# Altium footprint library TI Amplifiers and Linear Special Function Amplifier.PcbLib: 176 footprints (part 3 of 12)
Each footprint in its own frame and in the unit in brackets; x right, y up, seen from the top. Pads: shape width x height; smd on the part's side, far side on the other; paste and mask are expansions set on the pad; w line width, h text height; cw(c..) or ccw(c..) is an arc to the next point about the centre after c.
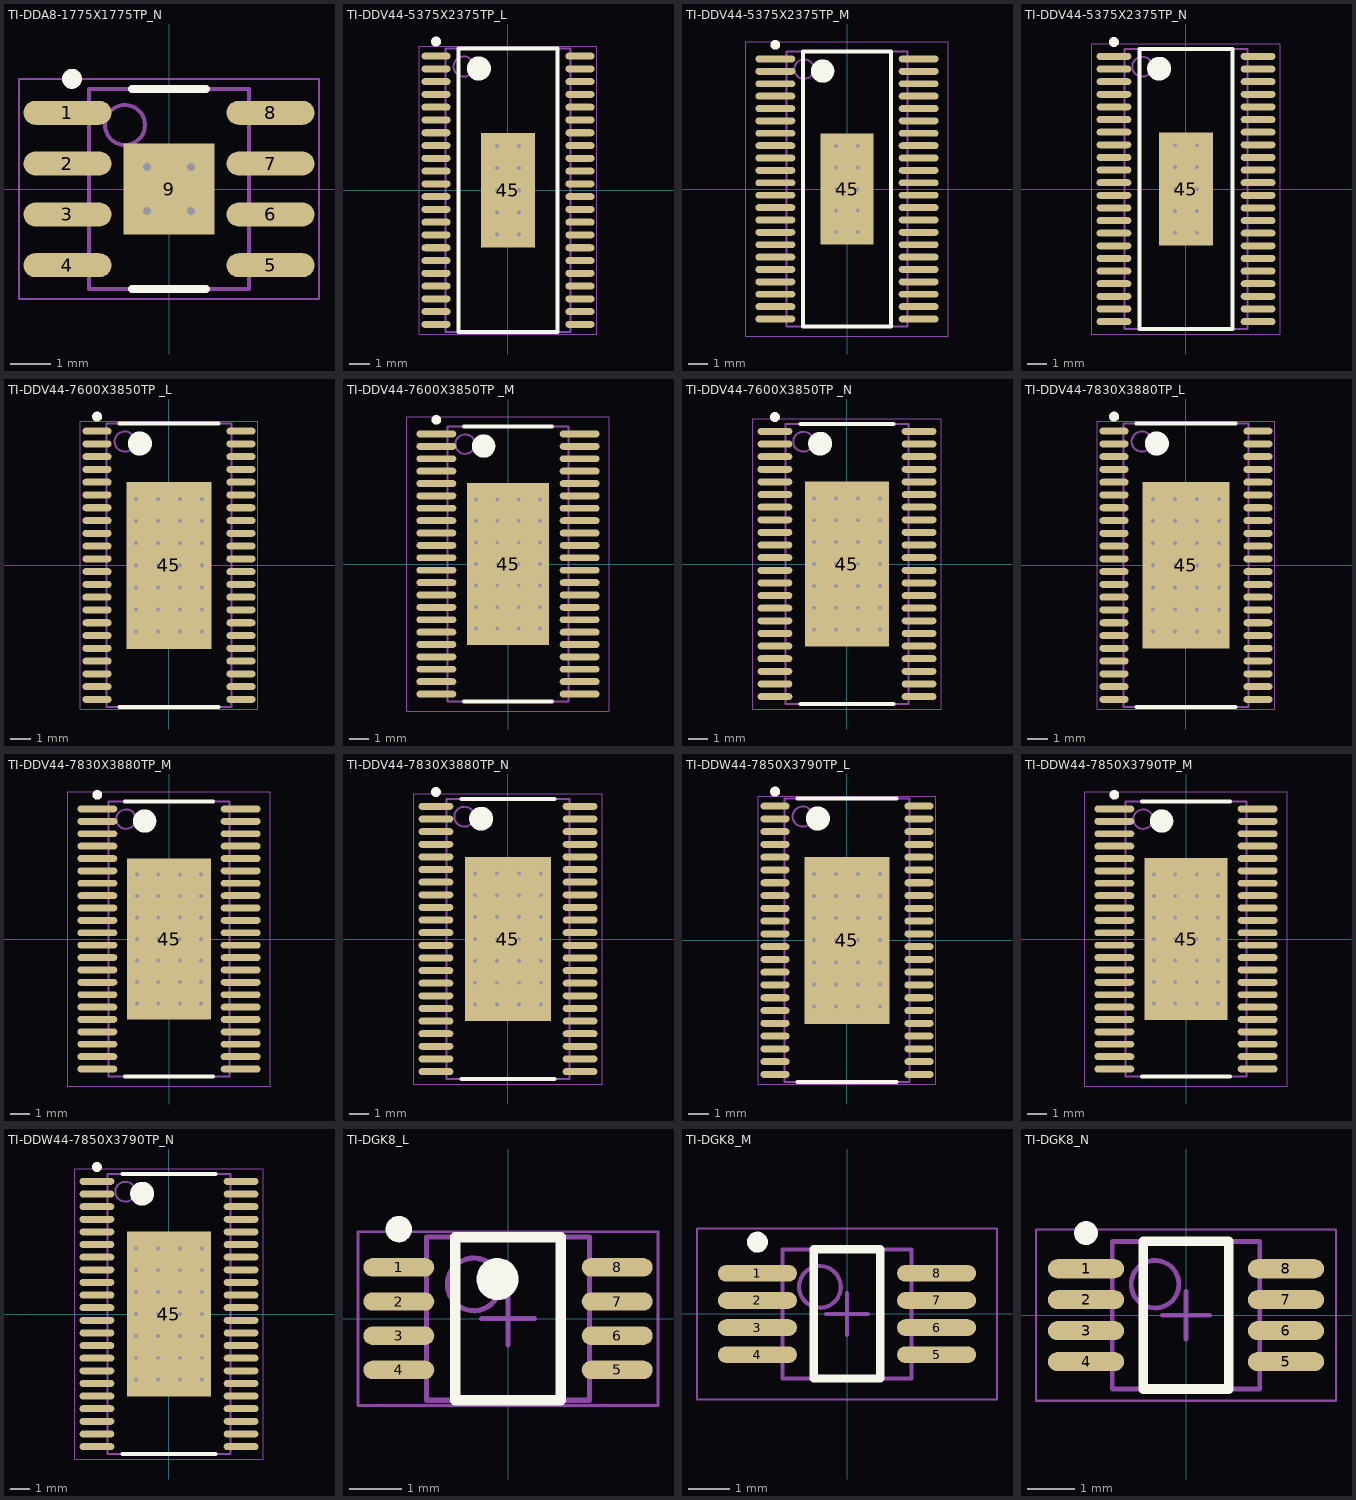
[diagram p2: the footprints below, top view; thin cyan lines are the x and y axes]

## TI-DDA8-1775X1775TP_N [mm] "SOP, 8-Leads, Body 4.9x3.9mm, Pitch 1.27mm, Thermal Pad 1.775x1.775mm, IPC Medium Density"
height 1.7
pads (9):
  oval 2.2x0.6 smd: 1(-2.54,1.905) 2(-2.54,0.635) 3(-2.54,-0.635) 4(-2.54,-1.905) 5(2.54,-1.905) 6(2.54,-0.635) 7(2.54,0.635) 8(2.54,1.905)
  rect 2.28x2.28 smd: 9(0,0)
via -0.55,0.55 diameter 0.5 hole 0.2
via 0.55,0.55 diameter 0.5 hole 0.2
via -0.55,-0.55 diameter 0.5 hole 0.2
via 0.55,-0.55 diameter 0.5 hole 0.2
Top Overlay:
  circle w0.25: c-2.425,2.755 r0.125
  lines w0.2: -0.925,-2.5 0.925,-2.5 ; -0.925,2.5 0.925,2.5
Mechanical 13:
  circle w0.1: c-1.1,1.6 r0.5
  lines w0.1: -2,-2.5 -2,2.5 2,2.5 2,-2.5 -2,-2.5
Mechanical 15:
  lines w0.05: -3.75,-2.75 -3.75,2.75 3.75,2.75 3.75,-2.75 -3.75,-2.75
  lines w0.1: -0.5,0 0.5,0 ; 0,-0.5 0,0.5
3D body: height 1.7, standoff 0, extent -2,-2.5 2,2.5

## TI-DDV44-5375X2375TP_L [mm] "SOP, 44-Leads, Body 14x6.1mm, Pitch 0.635mm, Thermal Pad 5.7x2.7mm, IPC High Density"
height 1.2
pads (45):
  oval 1.45x0.35 smd: 1(-3.575,6.667) 2(-3.575,6.032) 3(-3.575,5.397) 4(-3.575,4.763) 5(-3.575,4.127) 6(-3.575,3.492) 7(-3.575,2.857) 8(-3.575,2.222) 9(-3.575,1.587) 10(-3.575,0.953) 11(-3.575,0.318) 12(-3.575,-0.318) 13(-3.575,-0.953) 14(-3.575,-1.587) 15(-3.575,-2.222) 16(-3.575,-2.857) 17(-3.575,-3.492) 18(-3.575,-4.127) 19(-3.575,-4.763) 20(-3.575,-5.397) 21(-3.575,-6.032) 22(-3.575,-6.667) 23(3.575,-6.667) 24(3.575,-6.032) 25(3.575,-5.397) 26(3.575,-4.763) 27(3.575,-4.127) 28(3.575,-3.492) 29(3.575,-2.857) 30(3.575,-2.222) 31(3.575,-1.587) 32(3.575,-0.953) 33(3.575,-0.318) 34(3.575,0.318) 35(3.575,0.953) 36(3.575,1.587) 37(3.575,2.222) 38(3.575,2.857) 39(3.575,3.492) 40(3.575,4.127) 41(3.575,4.763) 42(3.575,5.397) 43(3.575,6.032) 44(3.575,6.667)
  rect 2.7x5.7 smd: 45(0,0)
via -0.55,2.2 diameter 0.5 hole 0.2
via 0.55,2.2 diameter 0.5 hole 0.2
via -0.55,1.1 diameter 0.5 hole 0.2
via 0.55,1.1 diameter 0.5 hole 0.2
via -0.55,0 diameter 0.5 hole 0.2
via 0.55,0 diameter 0.5 hole 0.2
via -0.55,-1.1 diameter 0.5 hole 0.2
via 0.55,-1.1 diameter 0.5 hole 0.2
via -0.55,-2.2 diameter 0.5 hole 0.2
via 0.55,-2.2 diameter 0.5 hole 0.2
Top Overlay:
  circle w0.25: c-3.575,7.392 r0.125
  circle w0.6: c-1.45,6.05 r0.3
  lines w0.2: -2.45,-7.05 -2.45,7.05 2.45,7.05 2.45,-7.05 -2.45,-7.05
Mechanical 13:
  circle w0.1: c-2.2,6.15 r0.5
  lines w0.1: -3.1,-7.05 -3.1,7.05 3.1,7.05 3.1,-7.05 -3.1,-7.05
Mechanical 15:
  lines w0.05: -4.4,-7.15 -4.4,7.15 4.4,7.15 4.4,-7.15 -4.4,-7.15
  lines w0.1: -0.5,0 0.5,0 ; 0,-0.5 0,0.5
3D body: height 1.2, standoff 0.05, extent -3.1,-7.05 3.1,7.05

## TI-DDV44-5375X2375TP_M [mm] "SOP, 44-Leads, Body 14x6.1mm, Pitch 0.635mm, Thermal Pad 5.7x2.7mm, IPC Low Density"
height 1.2
pads (45):
  oval 2.05x0.35 smd: 1(-3.675,6.667) 2(-3.675,6.032) 3(-3.675,5.397) 4(-3.675,4.763) 5(-3.675,4.127) 6(-3.675,3.492) 7(-3.675,2.857) 8(-3.675,2.222) 9(-3.675,1.587) 10(-3.675,0.953) 11(-3.675,0.318) 12(-3.675,-0.318) 13(-3.675,-0.953) 14(-3.675,-1.587) 15(-3.675,-2.222) 16(-3.675,-2.857) 17(-3.675,-3.492) 18(-3.675,-4.127) 19(-3.675,-4.763) 20(-3.675,-5.397) 21(-3.675,-6.032) 22(-3.675,-6.667) 23(3.675,-6.667) 24(3.675,-6.032) 25(3.675,-5.397) 26(3.675,-4.763) 27(3.675,-4.127) 28(3.675,-3.492) 29(3.675,-2.857) 30(3.675,-2.222) 31(3.675,-1.587) 32(3.675,-0.953) 33(3.675,-0.318) 34(3.675,0.318) 35(3.675,0.953) 36(3.675,1.587) 37(3.675,2.222) 38(3.675,2.857) 39(3.675,3.492) 40(3.675,4.127) 41(3.675,4.763) 42(3.675,5.397) 43(3.675,6.032) 44(3.675,6.667)
  rect 2.7x5.7 smd: 45(0,0)
via -0.55,2.2 diameter 0.5 hole 0.2
via 0.55,2.2 diameter 0.5 hole 0.2
via -0.55,1.1 diameter 0.5 hole 0.2
via 0.55,1.1 diameter 0.5 hole 0.2
via -0.55,0 diameter 0.5 hole 0.2
via 0.55,0 diameter 0.5 hole 0.2
via -0.55,-1.1 diameter 0.5 hole 0.2
via 0.55,-1.1 diameter 0.5 hole 0.2
via -0.55,-2.2 diameter 0.5 hole 0.2
via 0.55,-2.2 diameter 0.5 hole 0.2
Top Overlay:
  circle w0.25: c-3.675,7.392 r0.125
  circle w0.6: c-1.25,6.05 r0.3
  lines w0.2: -2.25,-7.05 -2.25,7.05 2.25,7.05 2.25,-7.05 -2.25,-7.05
Mechanical 13:
  circle w0.1: c-2.2,6.15 r0.5
  lines w0.1: -3.1,-7.05 -3.1,7.05 3.1,7.05 3.1,-7.05 -3.1,-7.05
Mechanical 15:
  lines w0.05: -5.2,-7.55 -5.2,7.55 5.2,7.55 5.2,-7.55 -5.2,-7.55
  lines w0.1: -0.5,0 0.5,0 ; 0,-0.5 0,0.5
3D body: height 1.2, standoff 0.05, extent -3.1,-7.05 3.1,7.05

## TI-DDV44-5375X2375TP_N [mm] "SOP, 44-Leads, Body 14x6.1mm, Pitch 0.635mm, Thermal Pad 5.7x2.7mm, IPC Medium Density"
height 1.2
pads (45):
  oval 1.75x0.35 smd: 1(-3.625,6.667) 2(-3.625,6.032) 3(-3.625,5.397) 4(-3.625,4.763) 5(-3.625,4.127) 6(-3.625,3.492) 7(-3.625,2.857) 8(-3.625,2.222) 9(-3.625,1.587) 10(-3.625,0.953) 11(-3.625,0.318) 12(-3.625,-0.318) 13(-3.625,-0.953) 14(-3.625,-1.587) 15(-3.625,-2.222) 16(-3.625,-2.857) 17(-3.625,-3.492) 18(-3.625,-4.127) 19(-3.625,-4.763) 20(-3.625,-5.397) 21(-3.625,-6.032) 22(-3.625,-6.667) 23(3.625,-6.667) 24(3.625,-6.032) 25(3.625,-5.397) 26(3.625,-4.763) 27(3.625,-4.127) 28(3.625,-3.492) 29(3.625,-2.857) 30(3.625,-2.222) 31(3.625,-1.587) 32(3.625,-0.953) 33(3.625,-0.318) 34(3.625,0.318) 35(3.625,0.953) 36(3.625,1.587) 37(3.625,2.222) 38(3.625,2.857) 39(3.625,3.492) 40(3.625,4.127) 41(3.625,4.763) 42(3.625,5.397) 43(3.625,6.032) 44(3.625,6.667)
  rect 2.7x5.7 smd: 45(0,0)
via -0.55,2.2 diameter 0.5 hole 0.2
via 0.55,2.2 diameter 0.5 hole 0.2
via -0.55,1.1 diameter 0.5 hole 0.2
via 0.55,1.1 diameter 0.5 hole 0.2
via -0.55,0 diameter 0.5 hole 0.2
via 0.55,0 diameter 0.5 hole 0.2
via -0.55,-1.1 diameter 0.5 hole 0.2
via 0.55,-1.1 diameter 0.5 hole 0.2
via -0.55,-2.2 diameter 0.5 hole 0.2
via 0.55,-2.2 diameter 0.5 hole 0.2
Top Overlay:
  circle w0.25: c-3.625,7.392 r0.125
  circle w0.6: c-1.35,6.05 r0.3
  lines w0.2: -2.35,-7.05 -2.35,7.05 2.35,7.05 2.35,-7.05 -2.35,-7.05
Mechanical 13:
  circle w0.1: c-2.2,6.15 r0.5
  lines w0.1: -3.1,-7.05 -3.1,7.05 3.1,7.05 3.1,-7.05 -3.1,-7.05
Mechanical 15:
  lines w0.05: -4.75,-7.3 -4.75,7.3 4.75,7.3 4.75,-7.3 -4.75,-7.3
  lines w0.1: -0.5,0 0.5,0 ; 0,-0.5 0,0.5
3D body: height 1.2, standoff 0.05, extent -3.1,-7.05 3.1,7.05

## TI-DDV44-7600X3850TP _L [mm] "SOP, 44-Leads, Body 14x6.1mm, Pitch 0.635mm, Thermal Pad 8.3x4.2mm, IPC High Density"
height 1.2
pads (45):
  oval 1.45x0.35 smd: 1(-3.575,6.667) 2(-3.575,6.032) 3(-3.575,5.397) 4(-3.575,4.763) 5(-3.575,4.127) 6(-3.575,3.492) 7(-3.575,2.857) 8(-3.575,2.222) 9(-3.575,1.587) 10(-3.575,0.953) 11(-3.575,0.318) 12(-3.575,-0.318) 13(-3.575,-0.953) 14(-3.575,-1.587) 15(-3.575,-2.222) 16(-3.575,-2.857) 17(-3.575,-3.492) 18(-3.575,-4.127) 19(-3.575,-4.763) 20(-3.575,-5.397) 21(-3.575,-6.032) 22(-3.575,-6.667) 23(3.575,-6.667) 24(3.575,-6.032) 25(3.575,-5.397) 26(3.575,-4.763) 27(3.575,-4.127) 28(3.575,-3.492) 29(3.575,-2.857) 30(3.575,-2.222) 31(3.575,-1.587) 32(3.575,-0.953) 33(3.575,-0.318) 34(3.575,0.318) 35(3.575,0.953) 36(3.575,1.587) 37(3.575,2.222) 38(3.575,2.857) 39(3.575,3.492) 40(3.575,4.127) 41(3.575,4.763) 42(3.575,5.397) 43(3.575,6.032) 44(3.575,6.667)
  rect 4.2x8.3 smd: 45(0,0)
via -1.65,3.3 diameter 0.5 hole 0.2
via -0.55,3.3 diameter 0.5 hole 0.2
via 0.55,3.3 diameter 0.5 hole 0.2
via 1.65,3.3 diameter 0.5 hole 0.2
via -1.65,2.2 diameter 0.5 hole 0.2
via -0.55,2.2 diameter 0.5 hole 0.2
via 0.55,2.2 diameter 0.5 hole 0.2
via 1.65,2.2 diameter 0.5 hole 0.2
via -1.65,1.1 diameter 0.5 hole 0.2
via -0.55,1.1 diameter 0.5 hole 0.2
via 0.55,1.1 diameter 0.5 hole 0.2
via 1.65,1.1 diameter 0.5 hole 0.2
via -1.65,0 diameter 0.5 hole 0.2
via -0.55,0 diameter 0.5 hole 0.2
via 0.55,0 diameter 0.5 hole 0.2
via 1.65,0 diameter 0.5 hole 0.2
via -1.65,-1.1 diameter 0.5 hole 0.2
via -0.55,-1.1 diameter 0.5 hole 0.2
via 0.55,-1.1 diameter 0.5 hole 0.2
via 1.65,-1.1 diameter 0.5 hole 0.2
via -1.65,-2.2 diameter 0.5 hole 0.2
via -0.55,-2.2 diameter 0.5 hole 0.2
via 0.55,-2.2 diameter 0.5 hole 0.2
via 1.65,-2.2 diameter 0.5 hole 0.2
via -1.65,-3.3 diameter 0.5 hole 0.2
via -0.55,-3.3 diameter 0.5 hole 0.2
via 0.55,-3.3 diameter 0.5 hole 0.2
via 1.65,-3.3 diameter 0.5 hole 0.2
Top Overlay:
  circle w0.25: c-3.575,7.392 r0.125
  circle w0.6: c-1.45,6.05 r0.3
  lines w0.2: -2.45,-7.05 2.45,-7.05 ; -2.45,7.05 2.45,7.05
Mechanical 13:
  circle w0.1: c-2.2,6.15 r0.5
  lines w0.1: -3.1,-7.05 -3.1,7.05 3.1,7.05 3.1,-7.05 -3.1,-7.05
Mechanical 15:
  lines w0.05: -4.4,-7.15 -4.4,7.15 4.4,7.15 4.4,-7.15 -4.4,-7.15
  lines w0.1: -0.5,0 0.5,0 ; 0,-0.5 0,0.5
3D body: height 1.2, standoff 0.05, extent -3.1,-7.05 3.1,7.05

## TI-DDV44-7600X3850TP _M [mm] "SOP, 44-Leads, Body 14x6.1mm, Pitch 0.635mm, Thermal Pad 8.3x4.2mm, IPC Low Density"
height 1.2
pads (45):
  oval 2.05x0.35 smd: 1(-3.675,6.667) 2(-3.675,6.032) 3(-3.675,5.397) 4(-3.675,4.763) 5(-3.675,4.127) 6(-3.675,3.492) 7(-3.675,2.857) 8(-3.675,2.222) 9(-3.675,1.587) 10(-3.675,0.953) 11(-3.675,0.318) 12(-3.675,-0.318) 13(-3.675,-0.953) 14(-3.675,-1.587) 15(-3.675,-2.222) 16(-3.675,-2.857) 17(-3.675,-3.492) 18(-3.675,-4.127) 19(-3.675,-4.763) 20(-3.675,-5.397) 21(-3.675,-6.032) 22(-3.675,-6.667) 23(3.675,-6.667) 24(3.675,-6.032) 25(3.675,-5.397) 26(3.675,-4.763) 27(3.675,-4.127) 28(3.675,-3.492) 29(3.675,-2.857) 30(3.675,-2.222) 31(3.675,-1.587) 32(3.675,-0.953) 33(3.675,-0.318) 34(3.675,0.318) 35(3.675,0.953) 36(3.675,1.587) 37(3.675,2.222) 38(3.675,2.857) 39(3.675,3.492) 40(3.675,4.127) 41(3.675,4.763) 42(3.675,5.397) 43(3.675,6.032) 44(3.675,6.667)
  rect 4.2x8.3 smd: 45(0,0)
via -1.65,3.3 diameter 0.5 hole 0.2
via -0.55,3.3 diameter 0.5 hole 0.2
via 0.55,3.3 diameter 0.5 hole 0.2
via 1.65,3.3 diameter 0.5 hole 0.2
via -1.65,2.2 diameter 0.5 hole 0.2
via -0.55,2.2 diameter 0.5 hole 0.2
via 0.55,2.2 diameter 0.5 hole 0.2
via 1.65,2.2 diameter 0.5 hole 0.2
via -1.65,1.1 diameter 0.5 hole 0.2
via -0.55,1.1 diameter 0.5 hole 0.2
via 0.55,1.1 diameter 0.5 hole 0.2
via 1.65,1.1 diameter 0.5 hole 0.2
via -1.65,0 diameter 0.5 hole 0.2
via -0.55,0 diameter 0.5 hole 0.2
via 0.55,0 diameter 0.5 hole 0.2
via 1.65,0 diameter 0.5 hole 0.2
via -1.65,-1.1 diameter 0.5 hole 0.2
via -0.55,-1.1 diameter 0.5 hole 0.2
via 0.55,-1.1 diameter 0.5 hole 0.2
via 1.65,-1.1 diameter 0.5 hole 0.2
via -1.65,-2.2 diameter 0.5 hole 0.2
via -0.55,-2.2 diameter 0.5 hole 0.2
via 0.55,-2.2 diameter 0.5 hole 0.2
via 1.65,-2.2 diameter 0.5 hole 0.2
via -1.65,-3.3 diameter 0.5 hole 0.2
via -0.55,-3.3 diameter 0.5 hole 0.2
via 0.55,-3.3 diameter 0.5 hole 0.2
via 1.65,-3.3 diameter 0.5 hole 0.2
Top Overlay:
  circle w0.25: c-3.675,7.392 r0.125
  circle w0.6: c-1.25,6.05 r0.3
  lines w0.2: -2.25,-7.05 2.25,-7.05 ; -2.25,7.05 2.25,7.05
Mechanical 13:
  circle w0.1: c-2.2,6.15 r0.5
  lines w0.1: -3.1,-7.05 -3.1,7.05 3.1,7.05 3.1,-7.05 -3.1,-7.05
Mechanical 15:
  lines w0.05: -5.2,-7.55 -5.2,7.55 5.2,7.55 5.2,-7.55 -5.2,-7.55
  lines w0.1: -0.5,0 0.5,0 ; 0,-0.5 0,0.5
3D body: height 1.2, standoff 0.05, extent -3.1,-7.05 3.1,7.05

## TI-DDV44-7600X3850TP _N [mm] "SOP, 44-Leads, Body 14x6.1mm, Pitch 0.635mm, Thermal Pad 8.3x4.2mm, IPC Medium Density"
height 1.2
pads (45):
  oval 1.75x0.35 smd: 1(-3.625,6.667) 2(-3.625,6.032) 3(-3.625,5.397) 4(-3.625,4.763) 5(-3.625,4.127) 6(-3.625,3.492) 7(-3.625,2.857) 8(-3.625,2.222) 9(-3.625,1.587) 10(-3.625,0.953) 11(-3.625,0.318) 12(-3.625,-0.318) 13(-3.625,-0.953) 14(-3.625,-1.587) 15(-3.625,-2.222) 16(-3.625,-2.857) 17(-3.625,-3.492) 18(-3.625,-4.127) 19(-3.625,-4.763) 20(-3.625,-5.397) 21(-3.625,-6.032) 22(-3.625,-6.667) 23(3.625,-6.667) 24(3.625,-6.032) 25(3.625,-5.397) 26(3.625,-4.763) 27(3.625,-4.127) 28(3.625,-3.492) 29(3.625,-2.857) 30(3.625,-2.222) 31(3.625,-1.587) 32(3.625,-0.953) 33(3.625,-0.318) 34(3.625,0.318) 35(3.625,0.953) 36(3.625,1.587) 37(3.625,2.222) 38(3.625,2.857) 39(3.625,3.492) 40(3.625,4.127) 41(3.625,4.763) 42(3.625,5.397) 43(3.625,6.032) 44(3.625,6.667)
  rect 4.2x8.3 smd: 45(0,0)
via -1.65,3.3 diameter 0.5 hole 0.2
via -0.55,3.3 diameter 0.5 hole 0.2
via 0.55,3.3 diameter 0.5 hole 0.2
via 1.65,3.3 diameter 0.5 hole 0.2
via -1.65,2.2 diameter 0.5 hole 0.2
via -0.55,2.2 diameter 0.5 hole 0.2
via 0.55,2.2 diameter 0.5 hole 0.2
via 1.65,2.2 diameter 0.5 hole 0.2
via -1.65,1.1 diameter 0.5 hole 0.2
via -0.55,1.1 diameter 0.5 hole 0.2
via 0.55,1.1 diameter 0.5 hole 0.2
via 1.65,1.1 diameter 0.5 hole 0.2
via -1.65,0 diameter 0.5 hole 0.2
via -0.55,0 diameter 0.5 hole 0.2
via 0.55,0 diameter 0.5 hole 0.2
via 1.65,0 diameter 0.5 hole 0.2
via -1.65,-1.1 diameter 0.5 hole 0.2
via -0.55,-1.1 diameter 0.5 hole 0.2
via 0.55,-1.1 diameter 0.5 hole 0.2
via 1.65,-1.1 diameter 0.5 hole 0.2
via -1.65,-2.2 diameter 0.5 hole 0.2
via -0.55,-2.2 diameter 0.5 hole 0.2
via 0.55,-2.2 diameter 0.5 hole 0.2
via 1.65,-2.2 diameter 0.5 hole 0.2
via -1.65,-3.3 diameter 0.5 hole 0.2
via -0.55,-3.3 diameter 0.5 hole 0.2
via 0.55,-3.3 diameter 0.5 hole 0.2
via 1.65,-3.3 diameter 0.5 hole 0.2
Top Overlay:
  circle w0.25: c-3.625,7.392 r0.125
  circle w0.6: c-1.35,6.05 r0.3
  lines w0.2: -2.35,-7.05 2.35,-7.05 ; -2.35,7.05 2.35,7.05
Mechanical 13:
  circle w0.1: c-2.2,6.15 r0.5
  lines w0.1: -3.1,-7.05 -3.1,7.05 3.1,7.05 3.1,-7.05 -3.1,-7.05
Mechanical 15:
  lines w0.05: -4.75,-7.3 -4.75,7.3 4.75,7.3 4.75,-7.3 -4.75,-7.3
  lines w0.1: -0.5,0 0.5,0 ; 0,-0.5 0,0.5
3D body: height 1.2, standoff 0.05, extent -3.1,-7.05 3.1,7.05

## TI-DDV44-7830X3880TP_L [mm] "DDV, 44-Leads, Body 14x6.1mm, Pitch 0.635mm, Thermal Pad 8.26x4.31mm, IPC High Density"
height 1.2
pads (45):
  oval 1.45x0.35 smd: 1(-3.575,6.667) 2(-3.575,6.032) 3(-3.575,5.397) 4(-3.575,4.763) 5(-3.575,4.127) 6(-3.575,3.492) 7(-3.575,2.857) 8(-3.575,2.222) 9(-3.575,1.587) 10(-3.575,0.953) 11(-3.575,0.318) 12(-3.575,-0.318) 13(-3.575,-0.953) 14(-3.575,-1.587) 15(-3.575,-2.222) 16(-3.575,-2.857) 17(-3.575,-3.492) 18(-3.575,-4.127) 19(-3.575,-4.763) 20(-3.575,-5.397) 21(-3.575,-6.032) 22(-3.575,-6.667) 23(3.575,-6.667) 24(3.575,-6.032) 25(3.575,-5.397) 26(3.575,-4.763) 27(3.575,-4.127) 28(3.575,-3.492) 29(3.575,-2.857) 30(3.575,-2.222) 31(3.575,-1.587) 32(3.575,-0.953) 33(3.575,-0.318) 34(3.575,0.318) 35(3.575,0.953) 36(3.575,1.587) 37(3.575,2.222) 38(3.575,2.857) 39(3.575,3.492) 40(3.575,4.127) 41(3.575,4.763) 42(3.575,5.397) 43(3.575,6.032) 44(3.575,6.667)
  rect 4.31x8.26 smd: 45(0,0)
via -1.65,3.3 diameter 0.5 hole 0.2
via -0.55,3.3 diameter 0.5 hole 0.2
via 0.55,3.3 diameter 0.5 hole 0.2
via 1.65,3.3 diameter 0.5 hole 0.2
via -1.65,2.2 diameter 0.5 hole 0.2
via -0.55,2.2 diameter 0.5 hole 0.2
via 0.55,2.2 diameter 0.5 hole 0.2
via 1.65,2.2 diameter 0.5 hole 0.2
via -1.65,1.1 diameter 0.5 hole 0.2
via -0.55,1.1 diameter 0.5 hole 0.2
via 0.55,1.1 diameter 0.5 hole 0.2
via 1.65,1.1 diameter 0.5 hole 0.2
via -1.65,0 diameter 0.5 hole 0.2
via -0.55,0 diameter 0.5 hole 0.2
via 0.55,0 diameter 0.5 hole 0.2
via 1.65,0 diameter 0.5 hole 0.2
via -1.65,-1.1 diameter 0.5 hole 0.2
via -0.55,-1.1 diameter 0.5 hole 0.2
via 0.55,-1.1 diameter 0.5 hole 0.2
via 1.65,-1.1 diameter 0.5 hole 0.2
via -1.65,-2.2 diameter 0.5 hole 0.2
via -0.55,-2.2 diameter 0.5 hole 0.2
via 0.55,-2.2 diameter 0.5 hole 0.2
via 1.65,-2.2 diameter 0.5 hole 0.2
via -1.65,-3.3 diameter 0.5 hole 0.2
via -0.55,-3.3 diameter 0.5 hole 0.2
via 0.55,-3.3 diameter 0.5 hole 0.2
via 1.65,-3.3 diameter 0.5 hole 0.2
Top Overlay:
  circle w0.25: c-3.575,7.392 r0.125
  circle w0.6: c-1.45,6.05 r0.3
  lines w0.2: -2.45,-7.05 2.45,-7.05 ; -2.45,7.05 2.45,7.05
Mechanical 13:
  circle w0.1: c-2.2,6.15 r0.5
  lines w0.1: -3.1,-7.05 -3.1,7.05 3.1,7.05 3.1,-7.05 -3.1,-7.05
Mechanical 15:
  lines w0.05: -4.4,-7.15 -4.4,7.15 4.4,7.15 4.4,-7.15 -4.4,-7.15
  lines w0.1: -0.5,0 0.5,0 ; 0,-0.5 0,0.5
3D body: height 1.2, standoff 0.05, extent -3.1,-7.05 3.1,7.05

## TI-DDV44-7830X3880TP_M [mm] "DDV, 44-Leads, Body 14x6.1mm, Pitch 0.635mm, Thermal Pad 8.26x4.31mm, IPC Low Density"
height 1.2
pads (45):
  oval 2.05x0.35 smd: 1(-3.675,6.667) 2(-3.675,6.032) 3(-3.675,5.397) 4(-3.675,4.763) 5(-3.675,4.127) 6(-3.675,3.492) 7(-3.675,2.857) 8(-3.675,2.222) 9(-3.675,1.587) 10(-3.675,0.953) 11(-3.675,0.318) 12(-3.675,-0.318) 13(-3.675,-0.953) 14(-3.675,-1.587) 15(-3.675,-2.222) 16(-3.675,-2.857) 17(-3.675,-3.492) 18(-3.675,-4.127) 19(-3.675,-4.763) 20(-3.675,-5.397) 21(-3.675,-6.032) 22(-3.675,-6.667) 23(3.675,-6.667) 24(3.675,-6.032) 25(3.675,-5.397) 26(3.675,-4.763) 27(3.675,-4.127) 28(3.675,-3.492) 29(3.675,-2.857) 30(3.675,-2.222) 31(3.675,-1.587) 32(3.675,-0.953) 33(3.675,-0.318) 34(3.675,0.318) 35(3.675,0.953) 36(3.675,1.587) 37(3.675,2.222) 38(3.675,2.857) 39(3.675,3.492) 40(3.675,4.127) 41(3.675,4.763) 42(3.675,5.397) 43(3.675,6.032) 44(3.675,6.667)
  rect 4.31x8.26 smd: 45(0,0)
via -1.65,3.3 diameter 0.5 hole 0.2
via -0.55,3.3 diameter 0.5 hole 0.2
via 0.55,3.3 diameter 0.5 hole 0.2
via 1.65,3.3 diameter 0.5 hole 0.2
via -1.65,2.2 diameter 0.5 hole 0.2
via -0.55,2.2 diameter 0.5 hole 0.2
via 0.55,2.2 diameter 0.5 hole 0.2
via 1.65,2.2 diameter 0.5 hole 0.2
via -1.65,1.1 diameter 0.5 hole 0.2
via -0.55,1.1 diameter 0.5 hole 0.2
via 0.55,1.1 diameter 0.5 hole 0.2
via 1.65,1.1 diameter 0.5 hole 0.2
via -1.65,0 diameter 0.5 hole 0.2
via -0.55,0 diameter 0.5 hole 0.2
via 0.55,0 diameter 0.5 hole 0.2
via 1.65,0 diameter 0.5 hole 0.2
via -1.65,-1.1 diameter 0.5 hole 0.2
via -0.55,-1.1 diameter 0.5 hole 0.2
via 0.55,-1.1 diameter 0.5 hole 0.2
via 1.65,-1.1 diameter 0.5 hole 0.2
via -1.65,-2.2 diameter 0.5 hole 0.2
via -0.55,-2.2 diameter 0.5 hole 0.2
via 0.55,-2.2 diameter 0.5 hole 0.2
via 1.65,-2.2 diameter 0.5 hole 0.2
via -1.65,-3.3 diameter 0.5 hole 0.2
via -0.55,-3.3 diameter 0.5 hole 0.2
via 0.55,-3.3 diameter 0.5 hole 0.2
via 1.65,-3.3 diameter 0.5 hole 0.2
Top Overlay:
  circle w0.25: c-3.675,7.392 r0.125
  circle w0.6: c-1.25,6.05 r0.3
  lines w0.2: -2.25,-7.05 2.25,-7.05 ; -2.25,7.05 2.25,7.05
Mechanical 13:
  circle w0.1: c-2.2,6.15 r0.5
  lines w0.1: -3.1,-7.05 -3.1,7.05 3.1,7.05 3.1,-7.05 -3.1,-7.05
Mechanical 15:
  lines w0.05: -5.2,-7.55 -5.2,7.55 5.2,7.55 5.2,-7.55 -5.2,-7.55
  lines w0.1: -0.5,0 0.5,0 ; 0,-0.5 0,0.5
3D body: height 1.2, standoff 0.05, extent -3.1,-7.05 3.1,7.05

## TI-DDV44-7830X3880TP_N [mm] "DDV, 44-Leads, Body 14x6.1mm, Pitch 0.635mm, Thermal Pad 8.26x4.31mm, IPC Medium Density"
height 1.2
pads (45):
  oval 1.75x0.35 smd: 1(-3.625,6.667) 2(-3.625,6.032) 3(-3.625,5.397) 4(-3.625,4.763) 5(-3.625,4.127) 6(-3.625,3.492) 7(-3.625,2.857) 8(-3.625,2.222) 9(-3.625,1.587) 10(-3.625,0.953) 11(-3.625,0.318) 12(-3.625,-0.318) 13(-3.625,-0.953) 14(-3.625,-1.587) 15(-3.625,-2.222) 16(-3.625,-2.857) 17(-3.625,-3.492) 18(-3.625,-4.127) 19(-3.625,-4.763) 20(-3.625,-5.397) 21(-3.625,-6.032) 22(-3.625,-6.667) 23(3.625,-6.667) 24(3.625,-6.032) 25(3.625,-5.397) 26(3.625,-4.763) 27(3.625,-4.127) 28(3.625,-3.492) 29(3.625,-2.857) 30(3.625,-2.222) 31(3.625,-1.587) 32(3.625,-0.953) 33(3.625,-0.318) 34(3.625,0.318) 35(3.625,0.953) 36(3.625,1.587) 37(3.625,2.222) 38(3.625,2.857) 39(3.625,3.492) 40(3.625,4.127) 41(3.625,4.763) 42(3.625,5.397) 43(3.625,6.032) 44(3.625,6.667)
  rect 4.31x8.26 smd: 45(0,0)
via -1.65,3.3 diameter 0.5 hole 0.2
via -0.55,3.3 diameter 0.5 hole 0.2
via 0.55,3.3 diameter 0.5 hole 0.2
via 1.65,3.3 diameter 0.5 hole 0.2
via -1.65,2.2 diameter 0.5 hole 0.2
via -0.55,2.2 diameter 0.5 hole 0.2
via 0.55,2.2 diameter 0.5 hole 0.2
via 1.65,2.2 diameter 0.5 hole 0.2
via -1.65,1.1 diameter 0.5 hole 0.2
via -0.55,1.1 diameter 0.5 hole 0.2
via 0.55,1.1 diameter 0.5 hole 0.2
via 1.65,1.1 diameter 0.5 hole 0.2
via -1.65,0 diameter 0.5 hole 0.2
via -0.55,0 diameter 0.5 hole 0.2
via 0.55,0 diameter 0.5 hole 0.2
via 1.65,0 diameter 0.5 hole 0.2
via -1.65,-1.1 diameter 0.5 hole 0.2
via -0.55,-1.1 diameter 0.5 hole 0.2
via 0.55,-1.1 diameter 0.5 hole 0.2
via 1.65,-1.1 diameter 0.5 hole 0.2
via -1.65,-2.2 diameter 0.5 hole 0.2
via -0.55,-2.2 diameter 0.5 hole 0.2
via 0.55,-2.2 diameter 0.5 hole 0.2
via 1.65,-2.2 diameter 0.5 hole 0.2
via -1.65,-3.3 diameter 0.5 hole 0.2
via -0.55,-3.3 diameter 0.5 hole 0.2
via 0.55,-3.3 diameter 0.5 hole 0.2
via 1.65,-3.3 diameter 0.5 hole 0.2
Top Overlay:
  circle w0.25: c-3.625,7.392 r0.125
  circle w0.6: c-1.35,6.05 r0.3
  lines w0.2: -2.35,-7.05 2.35,-7.05 ; -2.35,7.05 2.35,7.05
Mechanical 13:
  circle w0.1: c-2.2,6.15 r0.5
  lines w0.1: -3.1,-7.05 -3.1,7.05 3.1,7.05 3.1,-7.05 -3.1,-7.05
Mechanical 15:
  lines w0.05: -4.75,-7.3 -4.75,7.3 4.75,7.3 4.75,-7.3 -4.75,-7.3
  lines w0.1: -0.5,0 0.5,0 ; 0,-0.5 0,0.5
3D body: height 1.2, standoff 0.05, extent -3.1,-7.05 3.1,7.05

## TI-DDW44-7850X3790TP_L [mm] "SOP, 44-Leads, Body 14x6.1mm, Pitch 0.635mm, Thermal Pad 4.24x8.3mm, IPC High Density"
height 1.2
pads (45):
  oval 1.45x0.35 smd: 1(-3.575,6.667) 2(-3.575,6.032) 3(-3.575,5.397) 4(-3.575,4.763) 5(-3.575,4.127) 6(-3.575,3.492) 7(-3.575,2.857) 8(-3.575,2.222) 9(-3.575,1.587) 10(-3.575,0.953) 11(-3.575,0.318) 12(-3.575,-0.318) 13(-3.575,-0.953) 14(-3.575,-1.587) 15(-3.575,-2.222) 16(-3.575,-2.857) 17(-3.575,-3.492) 18(-3.575,-4.127) 19(-3.575,-4.763) 20(-3.575,-5.397) 21(-3.575,-6.032) 22(-3.575,-6.667) 23(3.575,-6.667) 24(3.575,-6.032) 25(3.575,-5.397) 26(3.575,-4.763) 27(3.575,-4.127) 28(3.575,-3.492) 29(3.575,-2.857) 30(3.575,-2.222) 31(3.575,-1.587) 32(3.575,-0.953) 33(3.575,-0.318) 34(3.575,0.318) 35(3.575,0.953) 36(3.575,1.587) 37(3.575,2.222) 38(3.575,2.857) 39(3.575,3.492) 40(3.575,4.127) 41(3.575,4.763) 42(3.575,5.397) 43(3.575,6.032) 44(3.575,6.667)
  rect 4.24x8.3 smd: 45(0,0)
via -1.65,3.3 diameter 0.5 hole 0.2
via -0.55,3.3 diameter 0.5 hole 0.2
via 0.55,3.3 diameter 0.5 hole 0.2
via 1.65,3.3 diameter 0.5 hole 0.2
via -1.65,2.2 diameter 0.5 hole 0.2
via -0.55,2.2 diameter 0.5 hole 0.2
via 0.55,2.2 diameter 0.5 hole 0.2
via 1.65,2.2 diameter 0.5 hole 0.2
via -1.65,1.1 diameter 0.5 hole 0.2
via -0.55,1.1 diameter 0.5 hole 0.2
via 0.55,1.1 diameter 0.5 hole 0.2
via 1.65,1.1 diameter 0.5 hole 0.2
via -1.65,0 diameter 0.5 hole 0.2
via -0.55,0 diameter 0.5 hole 0.2
via 0.55,0 diameter 0.5 hole 0.2
via 1.65,0 diameter 0.5 hole 0.2
via -1.65,-1.1 diameter 0.5 hole 0.2
via -0.55,-1.1 diameter 0.5 hole 0.2
via 0.55,-1.1 diameter 0.5 hole 0.2
via 1.65,-1.1 diameter 0.5 hole 0.2
via -1.65,-2.2 diameter 0.5 hole 0.2
via -0.55,-2.2 diameter 0.5 hole 0.2
via 0.55,-2.2 diameter 0.5 hole 0.2
via 1.65,-2.2 diameter 0.5 hole 0.2
via -1.65,-3.3 diameter 0.5 hole 0.2
via -0.55,-3.3 diameter 0.5 hole 0.2
via 0.55,-3.3 diameter 0.5 hole 0.2
via 1.65,-3.3 diameter 0.5 hole 0.2
Top Overlay:
  circle w0.25: c-3.575,7.392 r0.125
  circle w0.6: c-1.45,6.05 r0.3
  lines w0.2: -2.45,-7.05 2.45,-7.05 ; -2.45,7.05 2.45,7.05
Mechanical 13:
  circle w0.1: c-2.2,6.15 r0.5
  lines w0.1: -3.1,-7.05 -3.1,7.05 3.1,7.05 3.1,-7.05 -3.1,-7.05
Mechanical 15:
  lines w0.05: -4.4,-7.15 -4.4,7.15 4.4,7.15 4.4,-7.15 -4.4,-7.15
  lines w0.1: -0.5,0 0.5,0 ; 0,-0.5 0,0.5
3D body: height 1.2, standoff 0.05, extent -3.1,-7.05 3.1,7.05

## TI-DDW44-7850X3790TP_M [mm] "SOP, 44-Leads, Body 14x6.1mm, Pitch 0.635mm, Thermal Pad 4.24x8.3mm, IPC Low Density"
height 1.2
pads (45):
  oval 2.05x0.35 smd: 1(-3.675,6.667) 2(-3.675,6.032) 3(-3.675,5.397) 4(-3.675,4.763) 5(-3.675,4.127) 6(-3.675,3.492) 7(-3.675,2.857) 8(-3.675,2.222) 9(-3.675,1.587) 10(-3.675,0.953) 11(-3.675,0.318) 12(-3.675,-0.318) 13(-3.675,-0.953) 14(-3.675,-1.587) 15(-3.675,-2.222) 16(-3.675,-2.857) 17(-3.675,-3.492) 18(-3.675,-4.127) 19(-3.675,-4.763) 20(-3.675,-5.397) 21(-3.675,-6.032) 22(-3.675,-6.667) 23(3.675,-6.667) 24(3.675,-6.032) 25(3.675,-5.397) 26(3.675,-4.763) 27(3.675,-4.127) 28(3.675,-3.492) 29(3.675,-2.857) 30(3.675,-2.222) 31(3.675,-1.587) 32(3.675,-0.953) 33(3.675,-0.318) 34(3.675,0.318) 35(3.675,0.953) 36(3.675,1.587) 37(3.675,2.222) 38(3.675,2.857) 39(3.675,3.492) 40(3.675,4.127) 41(3.675,4.763) 42(3.675,5.397) 43(3.675,6.032) 44(3.675,6.667)
  rect 4.24x8.3 smd: 45(0,0)
via -1.65,3.3 diameter 0.5 hole 0.2
via -0.55,3.3 diameter 0.5 hole 0.2
via 0.55,3.3 diameter 0.5 hole 0.2
via 1.65,3.3 diameter 0.5 hole 0.2
via -1.65,2.2 diameter 0.5 hole 0.2
via -0.55,2.2 diameter 0.5 hole 0.2
via 0.55,2.2 diameter 0.5 hole 0.2
via 1.65,2.2 diameter 0.5 hole 0.2
via -1.65,1.1 diameter 0.5 hole 0.2
via -0.55,1.1 diameter 0.5 hole 0.2
via 0.55,1.1 diameter 0.5 hole 0.2
via 1.65,1.1 diameter 0.5 hole 0.2
via -1.65,0 diameter 0.5 hole 0.2
via -0.55,0 diameter 0.5 hole 0.2
via 0.55,0 diameter 0.5 hole 0.2
via 1.65,0 diameter 0.5 hole 0.2
via -1.65,-1.1 diameter 0.5 hole 0.2
via -0.55,-1.1 diameter 0.5 hole 0.2
via 0.55,-1.1 diameter 0.5 hole 0.2
via 1.65,-1.1 diameter 0.5 hole 0.2
via -1.65,-2.2 diameter 0.5 hole 0.2
via -0.55,-2.2 diameter 0.5 hole 0.2
via 0.55,-2.2 diameter 0.5 hole 0.2
via 1.65,-2.2 diameter 0.5 hole 0.2
via -1.65,-3.3 diameter 0.5 hole 0.2
via -0.55,-3.3 diameter 0.5 hole 0.2
via 0.55,-3.3 diameter 0.5 hole 0.2
via 1.65,-3.3 diameter 0.5 hole 0.2
Top Overlay:
  circle w0.25: c-3.675,7.392 r0.125
  circle w0.6: c-1.25,6.05 r0.3
  lines w0.2: -2.25,-7.05 2.25,-7.05 ; -2.25,7.05 2.25,7.05
Mechanical 13:
  circle w0.1: c-2.2,6.15 r0.5
  lines w0.1: -3.1,-7.05 -3.1,7.05 3.1,7.05 3.1,-7.05 -3.1,-7.05
Mechanical 15:
  lines w0.05: -5.2,-7.55 -5.2,7.55 5.2,7.55 5.2,-7.55 -5.2,-7.55
  lines w0.1: -0.5,0 0.5,0 ; 0,-0.5 0,0.5
3D body: height 1.2, standoff 0.05, extent -3.1,-7.05 3.1,7.05

## TI-DDW44-7850X3790TP_N [mm] "SOP, 44-Leads, Body 14x6.1mm, Pitch 0.635mm, Thermal Pad 4.24x8.3mm, IPC Medium Density"
height 1.2
pads (45):
  oval 1.75x0.35 smd: 1(-3.625,6.667) 2(-3.625,6.032) 3(-3.625,5.397) 4(-3.625,4.763) 5(-3.625,4.127) 6(-3.625,3.492) 7(-3.625,2.857) 8(-3.625,2.222) 9(-3.625,1.587) 10(-3.625,0.953) 11(-3.625,0.318) 12(-3.625,-0.318) 13(-3.625,-0.953) 14(-3.625,-1.587) 15(-3.625,-2.222) 16(-3.625,-2.857) 17(-3.625,-3.492) 18(-3.625,-4.127) 19(-3.625,-4.763) 20(-3.625,-5.397) 21(-3.625,-6.032) 22(-3.625,-6.667) 23(3.625,-6.667) 24(3.625,-6.032) 25(3.625,-5.397) 26(3.625,-4.763) 27(3.625,-4.127) 28(3.625,-3.492) 29(3.625,-2.857) 30(3.625,-2.222) 31(3.625,-1.587) 32(3.625,-0.953) 33(3.625,-0.318) 34(3.625,0.318) 35(3.625,0.953) 36(3.625,1.587) 37(3.625,2.222) 38(3.625,2.857) 39(3.625,3.492) 40(3.625,4.127) 41(3.625,4.763) 42(3.625,5.397) 43(3.625,6.032) 44(3.625,6.667)
  rect 4.24x8.3 smd: 45(0,0)
via -1.65,3.3 diameter 0.5 hole 0.2
via -0.55,3.3 diameter 0.5 hole 0.2
via 0.55,3.3 diameter 0.5 hole 0.2
via 1.65,3.3 diameter 0.5 hole 0.2
via -1.65,2.2 diameter 0.5 hole 0.2
via -0.55,2.2 diameter 0.5 hole 0.2
via 0.55,2.2 diameter 0.5 hole 0.2
via 1.65,2.2 diameter 0.5 hole 0.2
via -1.65,1.1 diameter 0.5 hole 0.2
via -0.55,1.1 diameter 0.5 hole 0.2
via 0.55,1.1 diameter 0.5 hole 0.2
via 1.65,1.1 diameter 0.5 hole 0.2
via -1.65,0 diameter 0.5 hole 0.2
via -0.55,0 diameter 0.5 hole 0.2
via 0.55,0 diameter 0.5 hole 0.2
via 1.65,0 diameter 0.5 hole 0.2
via -1.65,-1.1 diameter 0.5 hole 0.2
via -0.55,-1.1 diameter 0.5 hole 0.2
via 0.55,-1.1 diameter 0.5 hole 0.2
via 1.65,-1.1 diameter 0.5 hole 0.2
via -1.65,-2.2 diameter 0.5 hole 0.2
via -0.55,-2.2 diameter 0.5 hole 0.2
via 0.55,-2.2 diameter 0.5 hole 0.2
via 1.65,-2.2 diameter 0.5 hole 0.2
via -1.65,-3.3 diameter 0.5 hole 0.2
via -0.55,-3.3 diameter 0.5 hole 0.2
via 0.55,-3.3 diameter 0.5 hole 0.2
via 1.65,-3.3 diameter 0.5 hole 0.2
Top Overlay:
  circle w0.25: c-3.625,7.392 r0.125
  circle w0.6: c-1.35,6.05 r0.3
  lines w0.2: -2.35,-7.05 2.35,-7.05 ; -2.35,7.05 2.35,7.05
Mechanical 13:
  circle w0.1: c-2.2,6.15 r0.5
  lines w0.1: -3.1,-7.05 -3.1,7.05 3.1,7.05 3.1,-7.05 -3.1,-7.05
Mechanical 15:
  lines w0.05: -4.75,-7.3 -4.75,7.3 4.75,7.3 4.75,-7.3 -4.75,-7.3
  lines w0.1: -0.5,0 0.5,0 ; 0,-0.5 0,0.5
3D body: height 1.2, standoff 0.05, extent -3.1,-7.05 3.1,7.05

## TI-DGK8_L [mm] "SOP, 8-Leads, Body 3.1x3.1mm, Pitch 0.65mm, IPC High Density"
height 1.1
pads (8):
  oval 1.35x0.35 smd: 1(-2.075,0.975) 2(-2.075,0.325) 3(-2.075,-0.325) 4(-2.075,-0.975) 5(2.075,-0.975) 6(2.075,-0.325) 7(2.075,0.325) 8(2.075,0.975)
Top Overlay:
  circle w0.25: c-2.075,1.7 r0.125
  circle w0.4: c-0.2,0.75 r0.2
  lines w0.2: -1,-1.55 -1,1.55 1,1.55 1,-1.55 -1,-1.55
Mechanical 13:
  circle w0.1: c-0.65,0.65 r0.5
  lines w0.1: -1.55,-1.55 -1.55,1.55 1.55,1.55 1.55,-1.55 -1.55,-1.55
Mechanical 15:
  lines w0.05: -2.85,-1.65 -2.85,1.65 2.85,1.65 2.85,-1.65 -2.85,-1.65
  lines w0.1: -0.5,0 0.5,0 ; 0,-0.5 0,0.5
3D body: height 1.1, standoff 0.05, extent -1.55,-1.55 1.55,1.55

## TI-DGK8_M [mm] "SOP, 8-Leads, Body 3.1x3.1mm, Pitch 0.65mm, IPC Low Density"
height 1.1
pads (8):
  oval 1.9x0.4 smd: 1(-2.15,0.975) 2(-2.15,0.325) 3(-2.15,-0.325) 4(-2.15,-0.975) 5(2.15,-0.975) 6(2.15,-0.325) 7(2.15,0.325) 8(2.15,0.975)
Top Overlay:
  circle w0.25: c-2.15,1.725 r0.125
  lines w0.2: -0.8,-1.55 0.8,-1.55 0.8,1.55 -0.8,1.55 -0.8,-1.55
Mechanical 13:
  circle w0.1: c-0.65,0.65 r0.5
  lines w0.1: -1.55,-1.55 1.55,-1.55 1.55,1.55 -1.55,1.55 -1.55,-1.55
Mechanical 15:
  lines w0.05: -3.6,-2.05 3.6,-2.05 3.6,2.05 -3.6,2.05 -3.6,-2.05
  lines w0.1: -0.5,0 0.5,0 ; 0,-0.5 0,0.5
3D body: height 1.1, standoff 0.05, extent -1.55,-1.55 1.55,1.55

## TI-DGK8_N [mm] "SOP, 8-Leads, Body 3.1x3.1mm, Pitch 0.65mm, IPC Medium Density"
height 1.1
pads (8):
  oval 1.6x0.4 smd: 1(-2.1,0.975) 2(-2.1,0.325) 3(-2.1,-0.325) 4(-2.1,-0.975) 5(2.1,-0.975) 6(2.1,-0.325) 7(2.1,0.325) 8(2.1,0.975)
Top Overlay:
  circle w0.25: c-2.1,1.725 r0.125
  lines w0.2: -0.9,-1.55 -0.9,1.55 0.9,1.55 0.9,-1.55 -0.9,-1.55
Mechanical 13:
  circle w0.1: c-0.65,0.65 r0.5
  lines w0.1: -1.55,-1.55 -1.55,1.55 1.55,1.55 1.55,-1.55 -1.55,-1.55
Mechanical 15:
  lines w0.05: -3.15,-1.8 -3.15,1.8 3.15,1.8 3.15,-1.8 -3.15,-1.8
  lines w0.1: -0.5,0 0.5,0 ; 0,-0.5 0,0.5
3D body: height 1.1, standoff 0.05, extent -1.55,-1.55 1.55,1.55